# Altium footprint library Landzo.PcbLib: 4 footprints
Each footprint in its own frame and in the unit in brackets; x right, y up, seen from the top. Pads: shape width x height; smd on the part's side, far side on the other; paste and mask are expansions set on the pad; w line width, h text height; cw(c..) or ccw(c..) is an arc to the next point about the centre after c.
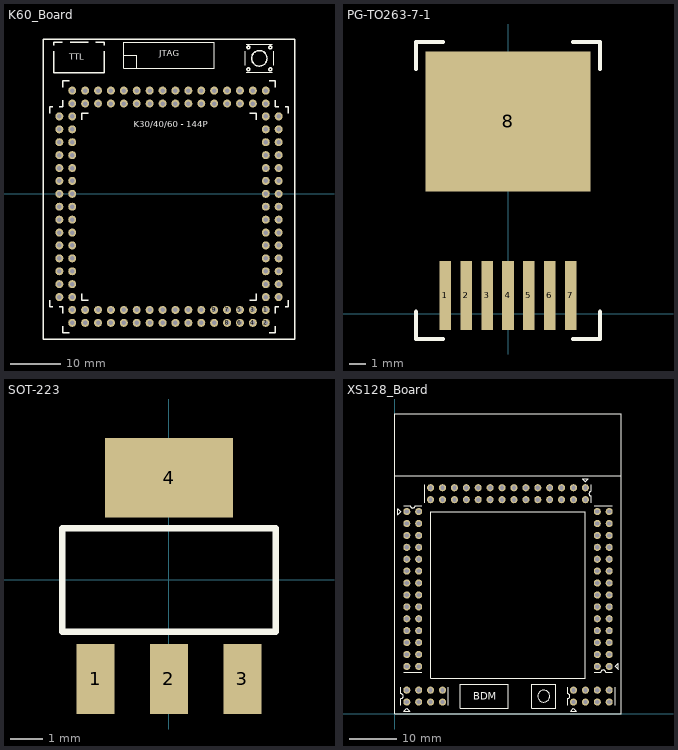
[diagram p0: the footprints below, top view; thin cyan lines are the x and y axes]

## K60_Board [mil]
pads (124):
  round 62 hole 35: 1(-1900,-900) 2(-1900,-1000) 3(-2000,-900) 4(-2000,-1000) 5(-2100,-900) 6(-2100,-1000) 7(-2200,-900) 8(-2200,-1000) 9(-2300,-900) 10(-2300,-1000) 11(-2400,-900) 12(-2400,-1000) 13(-2500,-900) 14(-2500,-1000) 15(-2600,-900) 16(-2600,-1000) 17(-2700,-900) 18(-2700,-1000) 19(-2800,-900) 20(-2800,-1000) 21(-2900,-900) 22(-2900,-1000) 23(-3000,-900) 24(-3000,-1000) 25(-3100,-900) 26(-3100,-1000) 27(-3200,-900) 28(-3200,-1000) 29(-3300,-900) 30(-3300,-1000) 31(-3400,-900) 32(-3400,-1000) 33(-3400,-800) 34(-3500,-800) 35(-3400,-700) 36(-3500,-700) 37(-3400,-600) 38(-3500,-600) 39(-3400,-500) 40(-3500,-500) 41(-3400,-400) 42(-3500,-400) 43(-3400,-300) 44(-3500,-300) 45(-3400,-200) 46(-3500,-200) 47(-3400,-100) 48(-3500,-100) 49(-3400,0) 50(-3500,0) 51(-3400,100) 52(-3500,100) 53(-3400,200) 54(-3500,200) 55(-3400,300) 56(-3500,300) 57(-3400,400) 58(-3500,400) 59(-3400,500) 60(-3500,500) 61(-3400,600) 62(-3500,600) 63(-3400,700) 64(-3400,800) 65(-3300,700) 66(-3300,800) 67(-3200,700) 68(-3200,800) 69(-3100,700) 70(-3100,800) 71(-3000,700) 72(-3000,800) 73(-2900,700) 74(-2900,800) 75(-2800,700) 76(-2800,800) 77(-2700,700) 78(-2700,800) 79(-2600,700) 80(-2600,800) 81(-2500,700) 82(-2500,800) 83(-2400,700) 84(-2400,800) 85(-2300,700) 86(-2300,800) 87(-2200,700) 88(-2200,800) 89(-2100,700) 90(-2100,800) 91(-2000,700) 92(-2000,800) 93(-1900,700) 94(-1900,800) 95(-1900,600) 96(-1800,600) 97(-1900,500) 98(-1800,500) 99(-1900,400) 100(-1800,400) 101(-1900,300) 102(-1800,300) 103(-1900,200) 104(-1800,200) 105(-1900,100) 106(-1800,100) 107(-1900,0) 108(-1800,0) 109(-1900,-100) 110(-1800,-100) 111(-1900,-200) 112(-1800,-200) 113(-1900,-300) 114(-1800,-300) 115(-1900,-400) 116(-1800,-400) 117(-1900,-500) 118(-1800,-500) 119(-1900,-600) 120(-1800,-600) 121(-1900,-700) 122(-1800,-700) 123(-1900,-800) 124(-1800,-800)
Top Overlay:
  circle w10: c-1950,1050 r60
  circle w10: c-2035,1135 r11.18
  circle w10: c-2035,965 r11.18
  circle w10: c-1865,965 r11.18
  circle w10: c-1865,1135 r11.18
  lines w7.87: -3000,1075 -2900,1075 -2900,975 ; -3000,975 -3000,1175 -2300,1175 -2300,975 -3000,975
  lines w8: -2060,995 -2060,1105 ; -2050,941.73 -1850,941.73 ; -2050,1158.27 -1850,1158.27 ; -1840,995 -1840,1105
  lines w10: -3575,-825 -3575,-875 -3550,-875 ; -3575,625 -3575,675 -3550,675 ; -3543.7,1106.57 -3543.7,938.78 -3150,938.78 -3150,1106.57 ; -3543.7,1151.57 -3543.7,1175 -3476.85,1175 ; -3500,-875 -3475,-875 -3475,-925 ; -3500,675 -3475,675 -3475,725 ; -3475,-1025 -3475,-1075 -3425,-1075 ; -3475,825 -3475,875 -3425,875 ; -3416.85,1176.57 -3276.85,1176.57 ; -3325,-775 -3325,-825 -3275,-825 ; -3325,575 -3325,625 -3275,625 ; -3216.85,1175 -3150,1175 -3150,1151.57 ; -2025,-825 -1975,-825 -1975,-775 ; -2025,625 -1975,625 -1975,575 ; -1875,-1075 -1825,-1075 -1825,-1025 ; -1875,875 -1825,875 -1825,825 ; -1825,-925 -1825,-875 -1800,-875 ; -1825,725 -1825,675 -1800,675 ; -1750,-875 -1725,-875 -1725,-825 ; -1750,675 -1725,675 -1725,625 ; -3625,-1125 -1675,-1125 -1675,-600 -1675,1200 -3625,1200 -3625,-500 -3625,-1125
  text "K30/40/60 - 144P" at -2925,500 h80
  text "JTAG" at -2725,1050 h80
  text "TTL" at -3425,1025 h80

## PG-TO263-7-1 [mm]
pads (8):
  rect 0.7x4.2 smd: 1(-3.81,1.123) 2(-2.54,1.123) 3(-1.27,1.123) 4(0,1.123) 5(1.27,1.123) 6(2.54,1.123) 7(3.81,1.123)
  rect 10x8.5 smd: 8(0,11.684)
Top Overlay:
  lines w0.254: -5.588,0.127 -5.588,-1.524 -3.937,-1.524 ; -5.588,14.859 -5.588,16.51 -3.937,16.51 ; 3.937,-1.524 5.588,-1.524 5.588,0.127 ; 3.937,16.51 5.588,16.51 5.588,14.859

## SOT-223 [mm] "SOT-223/SC-73; 4 Leads; Body 6.7 x 7.3 mm, inc. leads (LxW max)"
height 1.8
pads (4):
  rect 1.2x2.2 smd: 1(-2.3,-3.1) 2(0,-3.1) 3(2.3,-3.1)
  rect 4x2.5 smd: 4(0,3.2)
Top Overlay:
  lines w0.2: -3.35,-1.625 -3.35,1.625 3.35,1.625 3.35,-1.625 -3.35,-1.625

## XS128_Board [mm]
pads (100):
  oval 1.5x1.524 hole 0.9: 101(2.54,43.18) 102(5.08,43.18) 103(2.54,40.64) 104(5.08,40.64) 105(2.54,38.1) 106(5.08,38.1) 107(2.54,35.56) 108(5.08,35.56) 109(2.54,33.02) 110(5.08,33.02) 111(2.54,30.48) 112(5.08,30.48) 113(2.54,27.94) 114(5.08,27.94) 115(2.54,25.4) 116(5.08,25.4) 117(2.54,22.86) 118(5.08,22.86) 119(2.54,20.32) 120(5.08,20.32) 121(2.54,17.78) 122(5.08,17.78) 123(2.54,15.24) 124(5.08,15.24) 125(2.54,12.7) 126(5.08,12.7) 127(2.54,10.16) 128(5.08,10.16) 201(40.64,48.26) 202(40.64,45.72) 203(38.1,48.26) 204(38.1,45.72) 205(35.56,48.26) 206(35.56,45.72) 207(33.02,48.26) 208(33.02,45.72) 209(30.48,48.26) 210(30.48,45.72) 211(27.94,48.26) 212(27.94,45.72) 213(25.4,48.26) 214(25.4,45.72) 215(22.86,48.26) 216(22.86,45.72) 217(20.32,48.26) 218(20.32,45.72) 219(17.78,48.26) 220(17.78,45.72) 221(15.24,48.26) 222(15.24,45.72) 223(12.7,48.26) 224(12.7,45.72) 225(10.16,48.26) 226(10.16,45.72) 227(7.62,48.26) 228(7.62,45.72) 301(45.72,10.16) 302(43.18,10.16) 303(45.72,12.7) 304(43.18,12.7) 305(45.72,15.24) 306(43.18,15.24) 307(45.72,17.78) 308(43.18,17.78) 309(45.72,20.32) 310(43.18,20.32) 311(45.72,22.86) 312(43.18,22.86) 313(45.72,25.4) 314(43.18,25.4) 315(45.72,27.94) 316(43.18,27.94) 317(45.72,30.48) 318(43.18,30.48) 319(45.72,33.02) 320(43.18,33.02) 321(45.72,35.56) 322(43.18,35.56) 323(45.72,38.1) 324(43.18,38.1) 325(45.72,40.64) 326(43.18,40.64) 327(45.72,43.18) 328(43.18,43.18) 401(2.54,2.54) 402(2.54,5.08) 403(5.08,2.54) 404(5.08,5.08) 405(7.62,2.54) 406(7.62,5.08) 407(10.16,2.54) 408(10.16,5.08) 501(38.1,2.54) 502(38.1,5.08) 503(40.64,2.54) 504(40.64,5.08) 505(43.18,2.54) 506(43.18,5.08) 507(45.72,2.54) 508(45.72,5.08)
Top Overlay:
  circle w0.254: c31.75,3.81 r1.27
  lines w0.254: 1.27,1.905 1.27,3.302 ccw(c1.27,3.81) 1.27,4.318 1.27,5.715 ; 1.905,8.89 5.715,8.89 ; 1.905,44.45 3.302,44.45 ccw(c3.81,44.45) 4.318,44.45 5.715,44.45 ; 6.35,45.085 6.35,48.895 ; 11.43,1.905 11.43,5.715 ; 36.83,1.905 36.83,3.302 ccw(c36.83,3.81) 36.83,4.318 36.83,5.715 ; 41.91,45.085 41.91,46.482 cw(c41.91,46.99) 41.91,47.498 41.91,48.895 ; 42.545,8.89 43.942,8.89 cw(c44.45,8.89) 44.958,8.89 46.355,8.89 ; 42.545,44.45 46.355,44.45 ; 46.99,1.905 46.99,5.715 ; 0,50.8 0,64 48.26,64 48.26,50.8 ; 0,50.8 0,0 48.26,0 48.26,50.8 ; 0,50.8 48.26,50.8 ; 0.635,42.545 0.635,43.815 1.27,43.18 0.635,42.545 ; 1.905,0.635 2.54,1.27 3.175,0.635 1.905,0.635 ; 7.62,7.62 40.64,7.62 40.64,43.18 7.62,43.18 7.62,7.62 ; 13.97,1.27 24.13,1.27 24.13,6.35 13.97,6.35 13.97,1.27 ; 29.21,1.27 29.21,6.35 34.29,6.35 34.29,1.27 29.21,1.27 ; 37.465,0.635 38.1,1.27 38.735,0.635 37.465,0.635 ; 40.005,50.165 40.64,49.53 41.275,50.165 40.005,50.165 ; 46.99,10.16 47.625,9.525 47.625,10.795 46.99,10.16
  text "BDM" at 16.764,3.048 h1.52